# Altium integrated library Analog Devices Data Converters Digital-to-Analog Converters.IntLib: 2231 symbols (part 11 of 181)
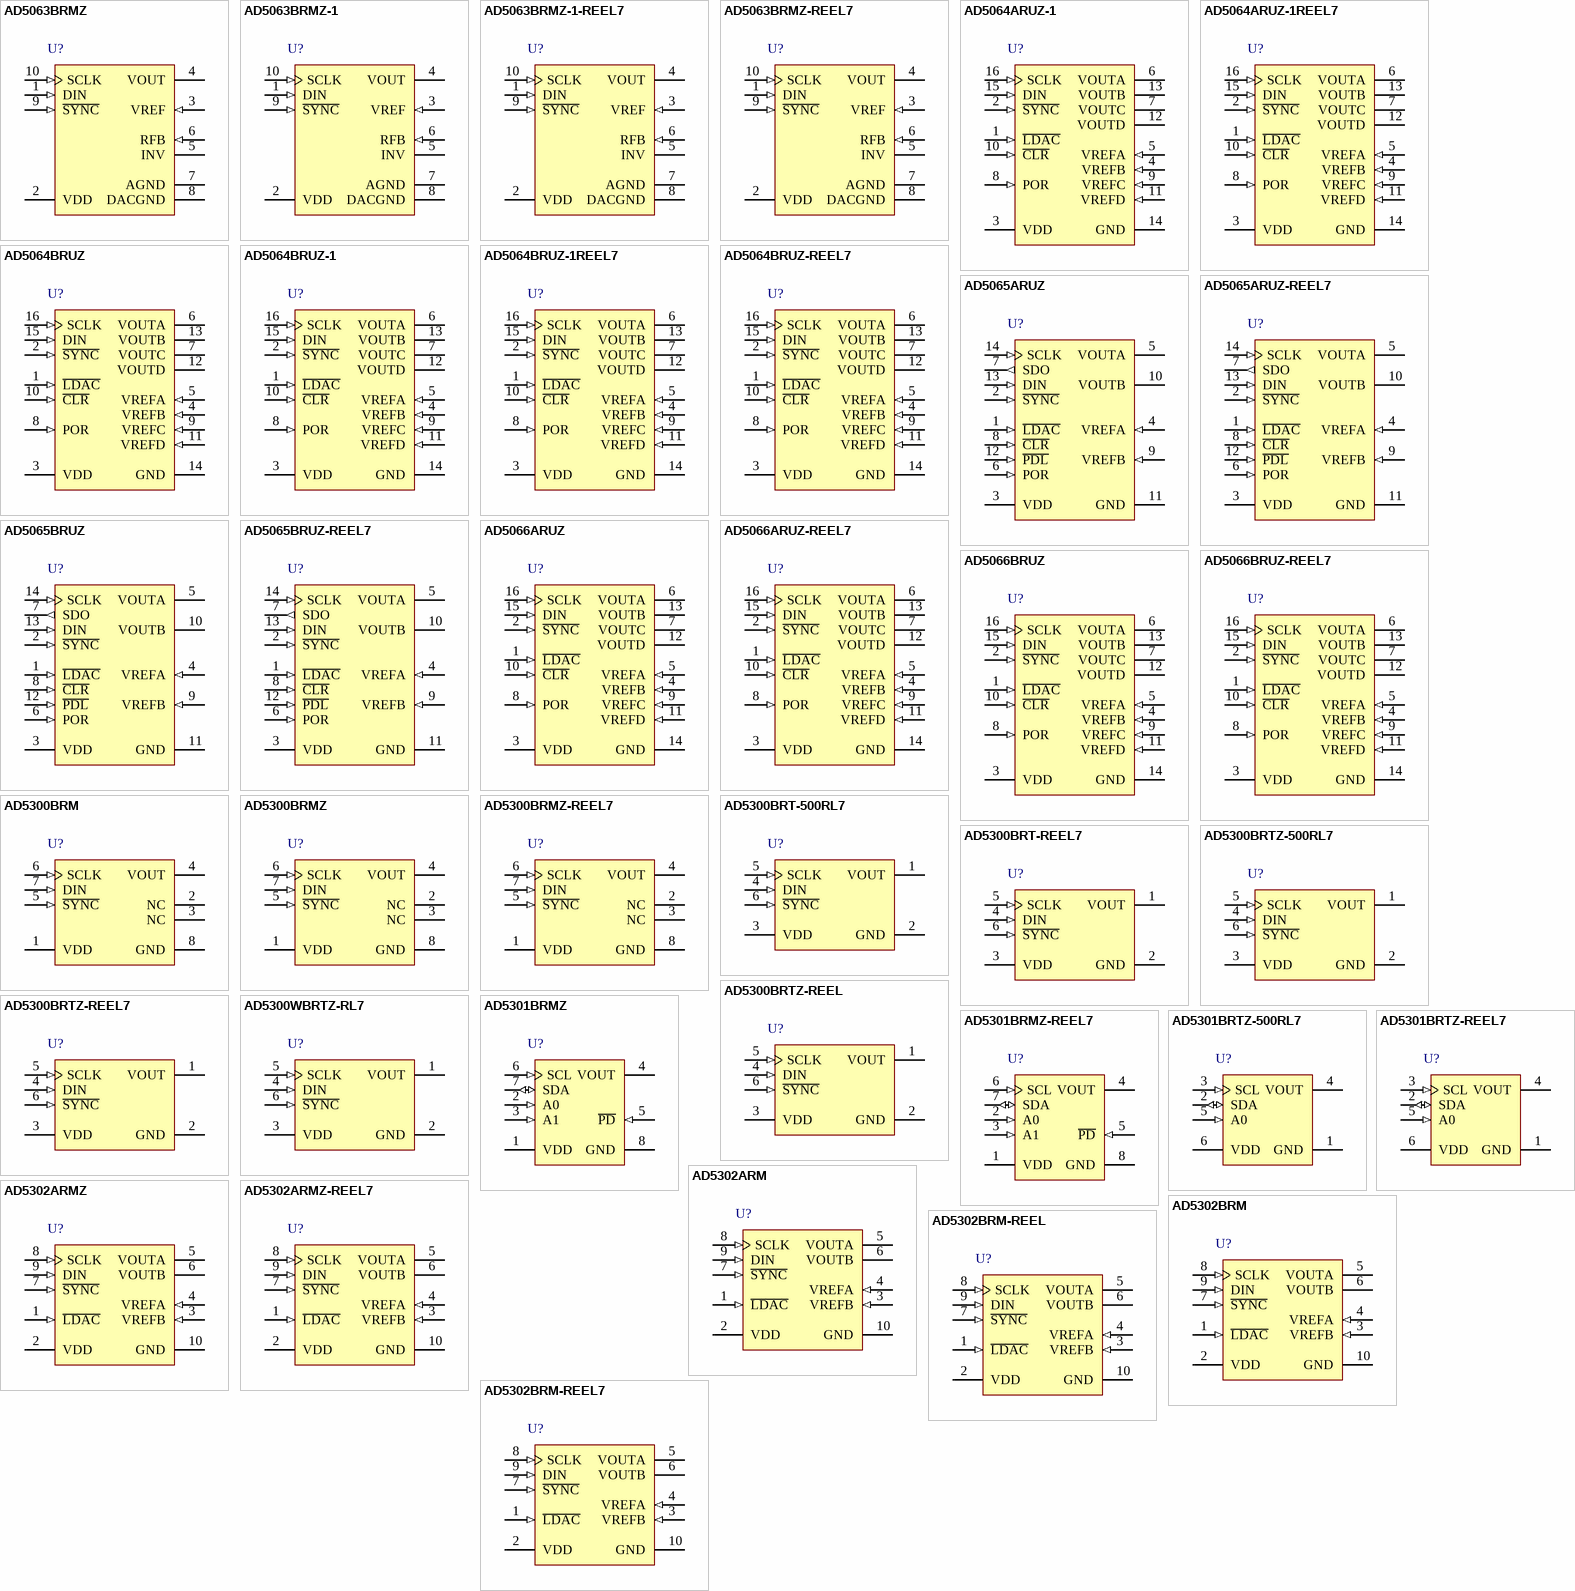
[diagram p124: symbols AD5063BRMZ to AD5302BRM-REEL7]

## AD5065BRUZ
designator U?
Dual 16-Bit Fully Accurate nanoDAC with SPI Interface, -40 to +125 degC, RU-14, Pb-Free, Tube; Generic Part Number: AD5065; Manufacturer: Analog Devices; PartNumber: AD5065BRUZ; # DAC Outputs: 2; Max V+: 5.5V; Op Pwr Diss: 13.5mW; Resolution (Bits): 16; Settling Time: 10.7µs; Single Supply: Yes; DatasheetVersion: Rev.0; PackageVersion: Aug-2002; PackageReference: RU-14; PackageDescription: 14-Lead Thin Shrink Small Outline Package [TSSOP]; Supplier 1: Digi-Key; Supplier Part Number 1: AD5065BRUZ-ND; Supplier 2: Farnell; Supplier Part Number 2: 2067840; Supplier 3: Newark; Supplier Part Number 3: 34P3160; Supplier 4: Mouser; Supplier Part Number 4: 584-AD5065BRUZ; Packing: Tube; RoHS: Y; Mounting Technology: Surface Mount; Code_JEDEC: MO-153-AB-1; ComponentLink1Description: Manufacturer URL; ComponentLink1URL: http://www.analog.com/en/index.html; ComponentLink2Description: Datasheet; ComponentLink2URL: http://www.analog.com/static/imported-files/data_sheets/AD5025_5045_5065.pdf; ComponentLink3Description: Package Specification; ComponentLink3URL: http://www.analog.com/static/imported-files/packages/36057385283879153717235186773RU14.pdf; ComponentLink4Description: Product URL; ComponentLink4URL: http://www.analog.com/en/digital-to-analog-converters/da-converters/ad5065/products/product.html
footprint RU-14_N (TSOP, 14-Leads, Body 5x4.4mm, Pitch 0.65mm, IPC Medium Density)
footprint RU-14_L (TSOP, 14-Leads, Body 5x4.4mm, Pitch 0.65mm, IPC High Density)
footprint RU-14_M (TSOP, 14-Leads, Body 5x4.4mm, Pitch 0.65mm, IPC Low Density)
pins: 1 ~{LDAC} (in) "Pulsing this pin low allows any or all DAC registers to be updated if the input registers have new data. This allows all DAC outputs to simultaneously update. This pin can be tied permanently low in standalone mode. When (See Datasheet)", 2 ~{SYNC} (in) "Active Low Control Input. This is the frame synchronization signal for the input data. When S\Y\N\C\ goes low, it powers on the SCLK and DIN buffers and enables the input register. Data is transferred in on the falling edges (See Datasheet)", 3 VDD (power) "Power Supply Input. These parts can be operated from 4.5 V to 5.5 V, and the supply should be decoupled with a 10 uF capacitor in parallel with a 0.1 uF capacitor to GND.", 4 VREFA (in) "DAC A Reference Input. This is the reference voltage input pin for DAC A.", 5 VOUTA (hiz) "Analog Output Voltage from DAC A. The output amplifier has rail-to-rail operation.", 6 POR (in) "Power-On Reset Pin. Tying this pin to GND powers up the part to 0 V. Tying this pin to VDD powers up the part to midscale.", 7 SDO (out) "Serial Data Output. Can be used for daisy-chaining a number of these devices together or for reading back the data in the shift register for diagnostic purposes. The serial data is transferred on the rising edge of SCLK and (See Datasheet)", 8 ~{CLR} (in) "Asynchronous Clear Input. The C\L\R\ input is falling edge sensitive. When C\L\R\ is low, all L\D\A\C\ pulses are ignored. When C\L\R\ is activated, the input register and the DAC register are updated with the data contained (See Datasheet)", 9 VREFB (in) "DAC B Reference Input. This is the reference voltage input pin for DAC B.", 10 VOUTB (hiz) "Analog Output Voltage from DAC B. The output amplifier has rail-to-rail operation.", 11 GND (power) "Ground Reference Point for All Circuitry on the Part.", 12 ~{PDL} (in) "The P\D\L\ pin is used to ensure hardware shutdown lockout of the device under any circumstance. A Logic 1 at the P\L\O\ pin causes the device to behave as normal. The user may successfully enter software power-down over the (See Datasheet)", 13 DIN (in) "Serial Data Input. This device has a 32-bit shift register. Data is clocked into the register on the falling edge of the serial clock input.", 14 SCLK (in) "Serial Clock Input. Data is clocked into the input register on the falling edge of the serial clock input. Data can be transferred at rates of up to 50 MHz."

## AD5065BRUZ-REEL7
designator U?
Dual 16-Bit Fully Accurate nanoDAC with SPI Interface, -40 to +125 degC, RU-14, Pb-Free, Reel; Generic Part Number: AD5065; Manufacturer: Analog Devices; PartNumber: AD5065BRUZ-REEL7; # DAC Outputs: 2; Max V+: 5.5V; Op Pwr Diss: 13.5mW; Resolution (Bits): 16; Settling Time: 10.7µs; Single Supply: Yes; DatasheetVersion: Rev.0; PackageVersion: Aug-2002; PackageReference: RU-14; PackageDescription: 14-Lead Thin Shrink Small Outline Package [TSSOP]; Supplier 1: Digi-Key; Supplier Part Number 1: AD5065BRUZ-REEL7-ND; Supplier 2: Mouser; Supplier Part Number 2: 584-AD5065BRUZ-R7; Packing: Reel; RoHS: Y; Mounting Technology: Surface Mount; Code_JEDEC: MO-153-AB-1; ComponentLink1Description: Manufacturer URL; ComponentLink1URL: http://www.analog.com/en/index.html; ComponentLink2Description: Datasheet; ComponentLink2URL: http://www.analog.com/static/imported-files/data_sheets/AD5025_5045_5065.pdf; ComponentLink3Description: Package Specification; ComponentLink3URL: http://www.analog.com/static/imported-files/packages/36057385283879153717235186773RU14.pdf; ComponentLink4Description: Product URL; ComponentLink4URL: http://www.analog.com/en/digital-to-analog-converters/da-converters/ad5065/products/product.html
footprint RU-14_N (TSOP, 14-Leads, Body 5x4.4mm, Pitch 0.65mm, IPC Medium Density)
footprint RU-14_L (TSOP, 14-Leads, Body 5x4.4mm, Pitch 0.65mm, IPC High Density)
footprint RU-14_M (TSOP, 14-Leads, Body 5x4.4mm, Pitch 0.65mm, IPC Low Density)
pins: 1 ~{LDAC} (in) "Pulsing this pin low allows any or all DAC registers to be updated if the input registers have new data. This allows all DAC outputs to simultaneously update. This pin can be tied permanently low in standalone mode. When (See Datasheet)", 2 ~{SYNC} (in) "Active Low Control Input. This is the frame synchronization signal for the input data. When S\Y\N\C\ goes low, it powers on the SCLK and DIN buffers and enables the input register. Data is transferred in on the falling edges (See Datasheet)", 3 VDD (power) "Power Supply Input. These parts can be operated from 4.5 V to 5.5 V, and the supply should be decoupled with a 10 uF capacitor in parallel with a 0.1 uF capacitor to GND.", 4 VREFA (in) "DAC A Reference Input. This is the reference voltage input pin for DAC A.", 5 VOUTA (hiz) "Analog Output Voltage from DAC A. The output amplifier has rail-to-rail operation.", 6 POR (in) "Power-On Reset Pin. Tying this pin to GND powers up the part to 0 V. Tying this pin to VDD powers up the part to midscale.", 7 SDO (out) "Serial Data Output. Can be used for daisy-chaining a number of these devices together or for reading back the data in the shift register for diagnostic purposes. The serial data is transferred on the rising edge of SCLK and (See Datasheet)", 8 ~{CLR} (in) "Asynchronous Clear Input. The C\L\R\ input is falling edge sensitive. When C\L\R\ is low, all L\D\A\C\ pulses are ignored. When C\L\R\ is activated, the input register and the DAC register are updated with the data contained (See Datasheet)", 9 VREFB (in) "DAC B Reference Input. This is the reference voltage input pin for DAC B.", 10 VOUTB (hiz) "Analog Output Voltage from DAC B. The output amplifier has rail-to-rail operation.", 11 GND (power) "Ground Reference Point for All Circuitry on the Part.", 12 ~{PDL} (in) "The P\D\L\ pin is used to ensure hardware shutdown lockout of the device under any circumstance. A Logic 1 at the P\L\O\ pin causes the device to behave as normal. The user may successfully enter software power-down over the (See Datasheet)", 13 DIN (in) "Serial Data Input. This device has a 32-bit shift register. Data is clocked into the register on the falling edge of the serial clock input.", 14 SCLK (in) "Serial Clock Input. Data is clocked into the input register on the falling edge of the serial clock input. Data can be transferred at rates of up to 50 MHz."

## AD5066ARUZ
designator U?
Quad 16-Bit Fully Accurate nanoDAC with SPI Interface and Unbuffered Vout, 2.7 to 5.5 V, -40 to +125 degC, RU-16, Pb-Free, Tube; Generic Part Number: AD5066; Manufacturer: Analog Devices; PartNumber: AD5066ARUZ; # DAC Outputs: 4; Max V+: 5.5V; Op Pwr Diss: 12.5mW; Resolution (Bits): 16; Settling Time: 12µs; Single Supply: Yes; DatasheetVersion: Rev.A; PackageVersion: Nov-2002; PackageReference: RU-16; PackageDescription: 16-Lead Thin Shrink Small Outline Package [TSSOP]; Supplier 1: Digi-Key; Supplier Part Number 1: AD5066ARUZ-ND; Supplier 2: Farnell; Supplier Part Number 2: 1827268; Supplier 3: Newark; Supplier Part Number 3: 81R1715; Supplier 4: Newark; Supplier Part Number 4: 26R2458; Supplier 5: Mouser; Supplier Part Number 5: 584-AD5066ARUZ; Packing: Tube; RoHS: Y; Mounting Technology: Surface Mount; Code_JEDEC: MO-153-AB; ComponentLink1Description: Manufacturer URL; ComponentLink1URL: http://www.analog.com/en/index.html; ComponentLink2Description: Datasheet; ComponentLink2URL: http://www.analog.com/static/imported-files/data_sheets/AD5066.pdf; ComponentLink3Description: Package Specification; ComponentLink3URL: http://www.analog.com/static/imported-files/packages/36244347913743854010197452789RU16.pdf; ComponentLink4Description: Product URL; ComponentLink4URL: http://www.analog.com/en/digital-to-analog-converters/da-converters/ad5066/products/product.html
footprint RU-16_N (TSOP, 16-Leads, Body 5x4.4mm, Pitch 0.65mm, IPC Medium Density)
footprint RU-16_L (TSOP, 16-Leads, Body 5x4.4mm, Pitch 0.65mm, IPC High Density)
footprint RU-16_M (TSOP, 16-Leads, Body 5x4.4mm, Pitch 0.65mm, IPC Low Density)
pins: 1 ~{LDAC} (in) "Load DAC. Logic input. This is used to update the DAC register and, consequently, the analog outputs. When tied permanently low, the addressed DAC register is updated on the falling edge of the 32nd clock. If L\D\A\C\ is (See Datasheet)", 2 ~{SYNC} (in) "Active Low Control Input. This is the frame synchronization signal for the input data. When S\Y\N\C\ goes low, it powers on the S\C\L\K\ and DIN buffers and enables the shift register. Data is transferred in on the falling (See Datasheet)", 3 VDD (power) "Power Supply Input. The AD5066 can be operated from 2.7 V to 5.5 V. Decouple the supply with a 10 uF capacitor in parallel with a 0.1 uF capacitor to GND.", 4 VREFB (in) "External Reference Voltage Input for DAC B.", 5 VREFA (in) "External Reference Voltage Input for DAC A.", 6 VOUTA (hiz) "Unbuffered Analog Output Voltage from DAC A.", 7 VOUTC (hiz) "Unbuffered Analog Output Voltage from DAC C.", 8 POR (in) "Power-On Reset Pin. Tying this pin to GND powers the DAC outputs to zero scale on power-up. Tying this pin to VDD powers the DAC outputs to midscale.", 9 VREFC (in) "External Reference Voltage Input for DAC C.", 10 ~{CLR} (in) "Asynchronous Clear Input. The C\L\R\ input is falling edge sensitive. When C\L\R\ is low, all L\D\A\C\ pulses are ignored. When C\L\R\ is activated, the input register and the DAC register are updated with the data contained (See Datasheet)", 11 VREFD (in) "External Reference Voltage Input for DAC D.", 12 VOUTD (hiz) "Unbuffered Analog Output Voltage from DAC D.", 13 VOUTB (hiz) "Unbuffered Analog Output Voltage from DAC B.", 14 GND (power) "Ground Reference Point for All Circuitry on the Part.", 15 DIN (in) "Serial Data Input. This device has a 32-bit shift register. Data is clocked into the register on the falling edge of the serial clock input.", 16 SCLK (in) "Serial Clock Input. Data is clocked into the input shift register on the falling edge of the serial clock input. Data can be transferred at rates of up to 50 MHz."

## AD5066ARUZ-REEL7
designator U?
Quad 16-Bit Fully Accurate nanoDAC with SPI Interface and Unbuffered Vout, 2.7 to 5.5 V, -40 to +125 degC, RU-16, Pb-Free, Reel; Generic Part Number: AD5066; Manufacturer: Analog Devices; PartNumber: AD5066ARUZ-REEL7; # DAC Outputs: 4; Max V+: 5.5V; Op Pwr Diss: 12.5mW; Resolution (Bits): 16; Settling Time: 12µs; Single Supply: Yes; DatasheetVersion: Rev.A; PackageVersion: Nov-2002; PackageReference: RU-16; PackageDescription: 16-Lead Thin Shrink Small Outline Package [TSSOP]; Supplier 1: Digi-Key; Supplier Part Number 1: AD5066ARUZ-REEL7-ND; Supplier 2: Mouser; Supplier Part Number 2: 584-AD5066ARUZ-R7; Packing: Reel; RoHS: Y; Mounting Technology: Surface Mount; Code_JEDEC: MO-153-AB; ComponentLink1Description: Manufacturer URL; ComponentLink1URL: http://www.analog.com/en/index.html; ComponentLink2Description: Datasheet; ComponentLink2URL: http://www.analog.com/static/imported-files/data_sheets/AD5066.pdf; ComponentLink3Description: Package Specification; ComponentLink3URL: http://www.analog.com/static/imported-files/packages/36244347913743854010197452789RU16.pdf; ComponentLink4Description: Product URL; ComponentLink4URL: http://www.analog.com/en/digital-to-analog-converters/da-converters/ad5066/products/product.html
footprint RU-16_N (TSOP, 16-Leads, Body 5x4.4mm, Pitch 0.65mm, IPC Medium Density)
footprint RU-16_L (TSOP, 16-Leads, Body 5x4.4mm, Pitch 0.65mm, IPC High Density)
footprint RU-16_M (TSOP, 16-Leads, Body 5x4.4mm, Pitch 0.65mm, IPC Low Density)
pins: 1 ~{LDAC} (in) "Load DAC. Logic input. This is used to update the DAC register and, consequently, the analog outputs. When tied permanently low, the addressed DAC register is updated on the falling edge of the 32nd clock. If L\D\A\C\ is (See Datasheet)", 2 ~{SYNC} (in) "Active Low Control Input. This is the frame synchronization signal for the input data. When S\Y\N\C\ goes low, it powers on the S\C\L\K\ and DIN buffers and enables the shift register. Data is transferred in on the falling (See Datasheet)", 3 VDD (power) "Power Supply Input. The AD5066 can be operated from 2.7 V to 5.5 V. Decouple the supply with a 10 uF capacitor in parallel with a 0.1 uF capacitor to GND.", 4 VREFB (in) "External Reference Voltage Input for DAC B.", 5 VREFA (in) "External Reference Voltage Input for DAC A.", 6 VOUTA (hiz) "Unbuffered Analog Output Voltage from DAC A.", 7 VOUTC (hiz) "Unbuffered Analog Output Voltage from DAC C.", 8 POR (in) "Power-On Reset Pin. Tying this pin to GND powers the DAC outputs to zero scale on power-up. Tying this pin to VDD powers the DAC outputs to midscale.", 9 VREFC (in) "External Reference Voltage Input for DAC C.", 10 ~{CLR} (in) "Asynchronous Clear Input. The C\L\R\ input is falling edge sensitive. When C\L\R\ is low, all L\D\A\C\ pulses are ignored. When C\L\R\ is activated, the input register and the DAC register are updated with the data contained (See Datasheet)", 11 VREFD (in) "External Reference Voltage Input for DAC D.", 12 VOUTD (hiz) "Unbuffered Analog Output Voltage from DAC D.", 13 VOUTB (hiz) "Unbuffered Analog Output Voltage from DAC B.", 14 GND (power) "Ground Reference Point for All Circuitry on the Part.", 15 DIN (in) "Serial Data Input. This device has a 32-bit shift register. Data is clocked into the register on the falling edge of the serial clock input.", 16 SCLK (in) "Serial Clock Input. Data is clocked into the input shift register on the falling edge of the serial clock input. Data can be transferred at rates of up to 50 MHz."

## AD5066BRUZ
designator U?
Quad 16-Bit Fully Accurate nanoDAC with SPI Interface and Unbuffered Vout, 2.7 to 5.5 V, -40 to +125 degC, RU-16, Pb-Free, Tube; Generic Part Number: AD5066; Manufacturer: Analog Devices; PartNumber: AD5066BRUZ; # DAC Outputs: 4; Max V+: 5.5V; Op Pwr Diss: 12.5mW; Resolution (Bits): 16; Settling Time: 12µs; Single Supply: Yes; DatasheetVersion: Rev.A; PackageVersion: Nov-2002; PackageReference: RU-16; PackageDescription: 16-Lead Thin Shrink Small Outline Package [TSSOP]; Supplier 1: Digi-Key; Supplier Part Number 1: AD5066BRUZ-ND; Supplier 2: Farnell; Supplier Part Number 2: 2067841; Supplier 3: Newark; Supplier Part Number 3: 26R2460; Supplier 4: Mouser; Supplier Part Number 4: 584-AD5066BRUZ; Packing: Tube; RoHS: Y; Mounting Technology: Surface Mount; Code_JEDEC: MO-153-AB; ComponentLink1Description: Manufacturer URL; ComponentLink1URL: http://www.analog.com/en/index.html; ComponentLink2Description: Datasheet; ComponentLink2URL: http://www.analog.com/static/imported-files/data_sheets/AD5066.pdf; ComponentLink3Description: Package Specification; ComponentLink3URL: http://www.analog.com/static/imported-files/packages/36244347913743854010197452789RU16.pdf; ComponentLink4Description: Product URL; ComponentLink4URL: http://www.analog.com/en/digital-to-analog-converters/da-converters/ad5066/products/product.html
footprint RU-16_N (TSOP, 16-Leads, Body 5x4.4mm, Pitch 0.65mm, IPC Medium Density)
footprint RU-16_L (TSOP, 16-Leads, Body 5x4.4mm, Pitch 0.65mm, IPC High Density)
footprint RU-16_M (TSOP, 16-Leads, Body 5x4.4mm, Pitch 0.65mm, IPC Low Density)
pins: 1 ~{LDAC} (in) "Load DAC. Logic input. This is used to update the DAC register and, consequently, the analog outputs. When tied permanently low, the addressed DAC register is updated on the falling edge of the 32nd clock. If L\D\A\C\ is (See Datasheet)", 2 ~{SYNC} (in) "Active Low Control Input. This is the frame synchronization signal for the input data. When S\Y\N\C\ goes low, it powers on the S\C\L\K\ and DIN buffers and enables the shift register. Data is transferred in on the falling (See Datasheet)", 3 VDD (power) "Power Supply Input. The AD5066 can be operated from 2.7 V to 5.5 V. Decouple the supply with a 10 uF capacitor in parallel with a 0.1 uF capacitor to GND.", 4 VREFB (in) "External Reference Voltage Input for DAC B.", 5 VREFA (in) "External Reference Voltage Input for DAC A.", 6 VOUTA (hiz) "Unbuffered Analog Output Voltage from DAC A.", 7 VOUTC (hiz) "Unbuffered Analog Output Voltage from DAC C.", 8 POR (in) "Power-On Reset Pin. Tying this pin to GND powers the DAC outputs to zero scale on power-up. Tying this pin to VDD powers the DAC outputs to midscale.", 9 VREFC (in) "External Reference Voltage Input for DAC C.", 10 ~{CLR} (in) "Asynchronous Clear Input. The C\L\R\ input is falling edge sensitive. When C\L\R\ is low, all L\D\A\C\ pulses are ignored. When C\L\R\ is activated, the input register and the DAC register are updated with the data contained (See Datasheet)", 11 VREFD (in) "External Reference Voltage Input for DAC D.", 12 VOUTD (hiz) "Unbuffered Analog Output Voltage from DAC D.", 13 VOUTB (hiz) "Unbuffered Analog Output Voltage from DAC B.", 14 GND (power) "Ground Reference Point for All Circuitry on the Part.", 15 DIN (in) "Serial Data Input. This device has a 32-bit shift register. Data is clocked into the register on the falling edge of the serial clock input.", 16 SCLK (in) "Serial Clock Input. Data is clocked into the input shift register on the falling edge of the serial clock input. Data can be transferred at rates of up to 50 MHz."

## AD5066BRUZ-REEL7
designator U?
Quad 16-Bit Fully Accurate nanoDAC with SPI Interface and Unbuffered Vout, 2.7 to 5.5 V, -40 to +125 degC, RU-16, Pb-Free, Reel; Generic Part Number: AD5066; Manufacturer: Analog Devices; PartNumber: AD5066BRUZ-REEL7; # DAC Outputs: 4; Max V+: 5.5V; Op Pwr Diss: 12.5mW; Resolution (Bits): 16; Settling Time: 12µs; Single Supply: Yes; DatasheetVersion: Rev.A; PackageVersion: Nov-2002; PackageReference: RU-16; PackageDescription: 16-Lead Thin Shrink Small Outline Package [TSSOP]; Supplier 1: Digi-Key; Supplier Part Number 1: AD5066BRUZ-REEL7-ND; Supplier 2: Mouser; Supplier Part Number 2: 584-AD5066BRUZ-R7; Packing: Reel; RoHS: Y; Mounting Technology: Surface Mount; Code_JEDEC: MO-153-AB; ComponentLink1Description: Manufacturer URL; ComponentLink1URL: http://www.analog.com/en/index.html; ComponentLink2Description: Datasheet; ComponentLink2URL: http://www.analog.com/static/imported-files/data_sheets/AD5066.pdf; ComponentLink3Description: Package Specification; ComponentLink3URL: http://www.analog.com/static/imported-files/packages/36244347913743854010197452789RU16.pdf; ComponentLink4Description: Product URL; ComponentLink4URL: http://www.analog.com/en/digital-to-analog-converters/da-converters/ad5066/products/product.html
footprint RU-16_N (TSOP, 16-Leads, Body 5x4.4mm, Pitch 0.65mm, IPC Medium Density)
footprint RU-16_L (TSOP, 16-Leads, Body 5x4.4mm, Pitch 0.65mm, IPC High Density)
footprint RU-16_M (TSOP, 16-Leads, Body 5x4.4mm, Pitch 0.65mm, IPC Low Density)
pins: 1 ~{LDAC} (in) "Load DAC. Logic input. This is used to update the DAC register and, consequently, the analog outputs. When tied permanently low, the addressed DAC register is updated on the falling edge of the 32nd clock. If L\D\A\C\ is (See Datasheet)", 2 ~{SYNC} (in) "Active Low Control Input. This is the frame synchronization signal for the input data. When S\Y\N\C\ goes low, it powers on the S\C\L\K\ and DIN buffers and enables the shift register. Data is transferred in on the falling (See Datasheet)", 3 VDD (power) "Power Supply Input. The AD5066 can be operated from 2.7 V to 5.5 V. Decouple the supply with a 10 uF capacitor in parallel with a 0.1 uF capacitor to GND.", 4 VREFB (in) "External Reference Voltage Input for DAC B.", 5 VREFA (in) "External Reference Voltage Input for DAC A.", 6 VOUTA (hiz) "Unbuffered Analog Output Voltage from DAC A.", 7 VOUTC (hiz) "Unbuffered Analog Output Voltage from DAC C.", 8 POR (in) "Power-On Reset Pin. Tying this pin to GND powers the DAC outputs to zero scale on power-up. Tying this pin to VDD powers the DAC outputs to midscale.", 9 VREFC (in) "External Reference Voltage Input for DAC C.", 10 ~{CLR} (in) "Asynchronous Clear Input. The C\L\R\ input is falling edge sensitive. When C\L\R\ is low, all L\D\A\C\ pulses are ignored. When C\L\R\ is activated, the input register and the DAC register are updated with the data contained (See Datasheet)", 11 VREFD (in) "External Reference Voltage Input for DAC D.", 12 VOUTD (hiz) "Unbuffered Analog Output Voltage from DAC D.", 13 VOUTB (hiz) "Unbuffered Analog Output Voltage from DAC B.", 14 GND (power) "Ground Reference Point for All Circuitry on the Part.", 15 DIN (in) "Serial Data Input. This device has a 32-bit shift register. Data is clocked into the register on the falling edge of the serial clock input.", 16 SCLK (in) "Serial Clock Input. Data is clocked into the input shift register on the falling edge of the serial clock input. Data can be transferred at rates of up to 50 MHz."

## AD5300BRM
designator U?
Single 8-Bit Rail-to-Rail Output Digital-to-Analog Converter, 2.7 to 5.5 V, 140 uA, -40 to +105 degC, RM-8, Tube; Generic Part Number: AD5300; Manufacturer: Analog Devices; PartNumber: AD5300BRM; # DAC Outputs: 1; Max V+: 5.5V; Op Pwr Diss: 1.4mW; Resolution (Bits): 8; Settling Time: 4µs; Single Supply: Yes; DatasheetVersion: Rev.D; PackageVersion: Aug-2005; PackageReference: RM-8; PackageDescription: 8-Lead Mini Small Outline Package [MSOP]; Supplier 1: Digi-Key; Supplier Part Number 1: AD5300BRM-ND; Supplier 2: Mouser; Supplier Part Number 2: 584-AD5300BRM; Packing: Tube; RoHS: N; Mounting Technology: Surface Mount; Code_JEDEC: MO-187-AA; ComponentLink1Description: Manufacturer URL; ComponentLink1URL: http://www.analog.com/en/index.html; ComponentLink2Description: Datasheet; ComponentLink2URL: http://www.analog.com/static/imported-files/data_sheets/AD5300.pdf; ComponentLink3Description: Package Specification; ComponentLink3URL: http://www.analog.com/static/imported-files/packages/PKG_PDF/MSOP%28RM%29/RM_8.pdf; ComponentLink4Description: Product URL; ComponentLink4URL: http://www.analog.com/en/digital-to-analog-converters/da-converters/ad5300/products/product.html
footprint RM-8_N (TSOP, 8-Leads, Body 3x3mm, Pitch 0.65mm, IPC Medium Density)
footprint RM-8_L (TSOP, 8-Leads, Body 3x3mm, Pitch 0.65mm, IPC High Density)
footprint RM-8_M (TSOP, 8-Leads, Body 3x3mm, Pitch 0.65mm, IPC Low Density)
pins: 1 VDD (power) "Power Supply Input. These parts can be operated from 2.5 V to 5.5 V, and VDD should be decoupled to GND.", 2 NC "No Connect.", 3 NC "No Connect.", 4 VOUT (hiz) "Analog Output Voltage from DAC. The output amplifier has rail-to-rail operation.", 5 ~{SYNC} (in) "Level Triggered Control Input (Active Low). This is the frame synchronization signal for the input data. When S\Y\N\C\ goes low, it enables the input shift register and data is transferred in on the falling edges of the (See Datasheet)", 6 SCLK (in) "Serial Clock Input. Data is clocked into the input shift register on the falling edge of the serial clock input. Data can be transferred at rates up to 30 MHz.", 7 DIN (in) "Serial Data Input. This device has a 16-bit shift register. Data is clocked into the register on the falling edge of the serial clock input.", 8 GND (power) "Ground Reference Point for All Circuitry on the Part"

## AD5300BRMZ
designator U?
Single 8-Bit Rail-to-Rail Output Digital-to-Analog Converter, 2.7 to 5.5 V, 140 uA, -40 to +105 degC, RM-8, Pb-Free, Tube; Generic Part Number: AD5300; Manufacturer: Analog Devices; PartNumber: AD5300BRMZ; # DAC Outputs: 1; Max V+: 5.5V; Op Pwr Diss: 1.4mW; Resolution (Bits): 8; Settling Time: 4µs; Single Supply: Yes; DatasheetVersion: Rev.D; PackageVersion: Aug-2005; PackageReference: RM-8; PackageDescription: 8-Lead Mini Small Outline Package [MSOP]; Supplier 1: Digi-Key; Supplier Part Number 1: AD5300BRMZ-ND; Supplier 2: Farnell; Supplier Part Number 2: 1079290; Supplier 3: Newark; Supplier Part Number 3: 19M0801; Supplier 4: Mouser; Supplier Part Number 4: 584-AD5300BRMZ; Packing: Tube; RoHS: Y; Mounting Technology: Surface Mount; Code_JEDEC: MO-187-AA; ComponentLink1Description: Manufacturer URL; ComponentLink1URL: http://www.analog.com/en/index.html; ComponentLink2Description: Datasheet; ComponentLink2URL: http://www.analog.com/static/imported-files/data_sheets/AD5300.pdf; ComponentLink3Description: Package Specification; ComponentLink3URL: http://www.analog.com/static/imported-files/packages/PKG_PDF/MSOP%28RM%29/RM_8.pdf; ComponentLink4Description: Product URL; ComponentLink4URL: http://www.analog.com/en/digital-to-analog-converters/da-converters/ad5300/products/product.html
footprint RM-8_N (TSOP, 8-Leads, Body 3x3mm, Pitch 0.65mm, IPC Medium Density)
footprint RM-8_L (TSOP, 8-Leads, Body 3x3mm, Pitch 0.65mm, IPC High Density)
footprint RM-8_M (TSOP, 8-Leads, Body 3x3mm, Pitch 0.65mm, IPC Low Density)
pins: 1 VDD (power) "Power Supply Input. These parts can be operated from 2.5 V to 5.5 V, and VDD should be decoupled to GND.", 2 NC "No Connect.", 3 NC "No Connect.", 4 VOUT (hiz) "Analog Output Voltage from DAC. The output amplifier has rail-to-rail operation.", 5 ~{SYNC} (in) "Level Triggered Control Input (Active Low). This is the frame synchronization signal for the input data. When S\Y\N\C\ goes low, it enables the input shift register and data is transferred in on the falling edges of the (See Datasheet)", 6 SCLK (in) "Serial Clock Input. Data is clocked into the input shift register on the falling edge of the serial clock input. Data can be transferred at rates up to 30 MHz.", 7 DIN (in) "Serial Data Input. This device has a 16-bit shift register. Data is clocked into the register on the falling edge of the serial clock input.", 8 GND (power) "Ground Reference Point for All Circuitry on the Part"

## AD5300BRMZ-REEL7
designator U?
Single 8-Bit Rail-to-Rail Output Digital-to-Analog Converter, 2.7 to 5.5 V, 140 uA, -40 to +105 degC, RM-8, Pb-Free, Reel; Generic Part Number: AD5300; Manufacturer: Analog Devices; PartNumber: AD5300BRMZ-REEL7; # DAC Outputs: 1; Max V+: 5.5V; Op Pwr Diss: 1.4mW; Resolution (Bits): 8; Settling Time: 4µs; Single Supply: Yes; DatasheetVersion: Rev.D; PackageVersion: Aug-2005; PackageReference: RM-8; PackageDescription: 8-Lead Mini Small Outline Package [MSOP]; Supplier 1: Digi-Key; Supplier Part Number 1: AD5300BRMZ-REEL7TR-ND; Supplier 2: Digi-Key; Supplier Part Number 2: AD5300BRMZ-REEL7CT-ND; Supplier 3: Digi-Key; Supplier Part Number 3: AD5300BRMZ-REEL7DKR-ND; Supplier 4: Mouser; Supplier Part Number 4: 584-AD5300BRMZ-R7; Packing: Reel; RoHS: Y; Mounting Technology: Surface Mount; Code_JEDEC: MO-187-AA; ComponentLink1Description: Manufacturer URL; ComponentLink1URL: http://www.analog.com/en/index.html; ComponentLink2Description: Datasheet; ComponentLink2URL: http://www.analog.com/static/imported-files/data_sheets/AD5300.pdf; ComponentLink3Description: Package Specification; ComponentLink3URL: http://www.analog.com/static/imported-files/packages/PKG_PDF/MSOP%28RM%29/RM_8.pdf; ComponentLink4Description: Product URL; ComponentLink4URL: http://www.analog.com/en/digital-to-analog-converters/da-converters/ad5300/products/product.html
footprint RM-8_N (TSOP, 8-Leads, Body 3x3mm, Pitch 0.65mm, IPC Medium Density)
footprint RM-8_L (TSOP, 8-Leads, Body 3x3mm, Pitch 0.65mm, IPC High Density)
footprint RM-8_M (TSOP, 8-Leads, Body 3x3mm, Pitch 0.65mm, IPC Low Density)
pins: 1 VDD (power) "Power Supply Input. These parts can be operated from 2.5 V to 5.5 V, and VDD should be decoupled to GND.", 2 NC "No Connect.", 3 NC "No Connect.", 4 VOUT (hiz) "Analog Output Voltage from DAC. The output amplifier has rail-to-rail operation.", 5 ~{SYNC} (in) "Level Triggered Control Input (Active Low). This is the frame synchronization signal for the input data. When S\Y\N\C\ goes low, it enables the input shift register and data is transferred in on the falling edges of the (See Datasheet)", 6 SCLK (in) "Serial Clock Input. Data is clocked into the input shift register on the falling edge of the serial clock input. Data can be transferred at rates up to 30 MHz.", 7 DIN (in) "Serial Data Input. This device has a 16-bit shift register. Data is clocked into the register on the falling edge of the serial clock input.", 8 GND (power) "Ground Reference Point for All Circuitry on the Part"

## AD5300BRT-500RL7
designator U?
Single 8-Bit Rail-to-Rail Output Digital-to-Analog Converter, 2.7 to 5.5 V, 140 uA, -40 to +105 degC, RJ-6, Reel; Generic Part Number: AD5300; Manufacturer: Analog Devices; PartNumber: AD5300BRT-500RL7; # DAC Outputs: 1; Max V+: 5.5V; Op Pwr Diss: 1.4mW; Resolution (Bits): 8; Settling Time: 4µs; Single Supply: Yes; DatasheetVersion: Rev.D; PackageVersion: 121608-A; PackageReference: RJ-6; PackageDescription: 6-Lead Small Outline Transistor Package [SOT-23]; Supplier 1: Digi-Key; Supplier Part Number 1: AD5300BRT-500RL7-ND; Supplier 2: Mouser; Supplier Part Number 2: 584-AD5300BRT-500R7; Packing: Reel; RoHS: N; Mounting Technology: Surface Mount; Code_JEDEC: MO-178-AB; ComponentLink1Description: Manufacturer URL; ComponentLink1URL: http://www.analog.com/en/index.html; ComponentLink2Description: Datasheet; ComponentLink2URL: http://www.analog.com/static/imported-files/data_sheets/AD5300.pdf; ComponentLink3Description: Package Specification; ComponentLink3URL: http://www.analog.com/static/imported-files/packages/PKG_PDF/SOT-23(RJ)/RJ_6.pdf; ComponentLink4Description: Product URL; ComponentLink4URL: http://www.analog.com/en/digital-to-analog-converters/da-converters/ad5300/products/product.html
footprint RJ-6_N (SOT23, 6-Leads, Body 2.9x1.6mm, Pitch 0.95mm, Lead Span 2.8mm, IPC Medium Density)
footprint RJ-6_L (SOT23, 6-Leads, Body 2.9x1.6mm, Pitch 0.95mm, Lead Span 2.8mm, IPC High Density)
footprint RJ-6_M (SOT23, 6-Leads, Body 2.9x1.6mm, Pitch 0.95mm, Lead Span 2.8mm, IPC Low Density)
pins: 1 VOUT (hiz) "Analog Output Voltage from DAC. The output amplifier has rail-to-rail operation.", 2 GND (power) "Ground Reference Point for All Circuitry on the Part.", 3 VDD (power) "Power Supply Input. These parts can be operated from 2.5 V to 5.5 V, and VDD should be decoupled to GND.", 4 DIN (in) "Serial Data Input. This device has a 16-bit shift register. Data is clocked into the register on the falling edge of the serial clock input.", 5 SCLK (in) "Serial Clock Input. Data is clocked into the input shift register on the falling edge of the serial clock input. Data can be transferred at rates up to 30 MHz.", 6 ~{SYNC} (in) "Level Triggered Control Input (Active Low). This is the frame synchronization signal for the input data. When S\Y\N\C\ goes low, it enables the input shift register and data is transferred in on the falling edges of the (See Datasheet)"

## AD5300BRT-REEL7
designator U?
Single 8-Bit Rail-to-Rail Output Digital-to-Analog Converter, 2.7 to 5.5 V, 140 uA, -40 to +105 degC, RJ-6, Reel; Generic Part Number: AD5300; Manufacturer: Analog Devices; PartNumber: AD5300BRT-REEL7; # DAC Outputs: 1; Max V+: 5.5V; Op Pwr Diss: 1.4mW; Resolution (Bits): 8; Settling Time: 4µs; Single Supply: Yes; DatasheetVersion: Rev.D; PackageVersion: 121608-A; PackageReference: RJ-6; PackageDescription: 6-Lead Small Outline Transistor Package [SOT-23]; Supplier 1: Digi-Key; Supplier Part Number 1: AD5300BRT-REEL7TR-ND; Supplier 2: Digi-Key; Supplier Part Number 2: AD5300BRT-REEL7CT-ND; Supplier 3: Digi-Key; Supplier Part Number 3: AD5300BRT-REEL7DKR-ND; Supplier 4: Newark; Supplier Part Number 4: 09B5171; Supplier 5: Mouser; Supplier Part Number 5: 584-AD5300BRT-R7; Packing: Reel; RoHS: N; Mounting Technology: Surface Mount; Code_JEDEC: MO-178-AB; ComponentLink1Description: Manufacturer URL; ComponentLink1URL: http://www.analog.com/en/index.html; ComponentLink2Description: Datasheet; ComponentLink2URL: http://www.analog.com/static/imported-files/data_sheets/AD5300.pdf; ComponentLink3Description: Package Specification; ComponentLink3URL: http://www.analog.com/static/imported-files/packages/PKG_PDF/SOT-23(RJ)/RJ_6.pdf; ComponentLink4Description: Product URL; ComponentLink4URL: http://www.analog.com/en/digital-to-analog-converters/da-converters/ad5300/products/product.html
footprint RJ-6_N (SOT23, 6-Leads, Body 2.9x1.6mm, Pitch 0.95mm, Lead Span 2.8mm, IPC Medium Density)
footprint RJ-6_L (SOT23, 6-Leads, Body 2.9x1.6mm, Pitch 0.95mm, Lead Span 2.8mm, IPC High Density)
footprint RJ-6_M (SOT23, 6-Leads, Body 2.9x1.6mm, Pitch 0.95mm, Lead Span 2.8mm, IPC Low Density)
pins: 1 VOUT (hiz) "Analog Output Voltage from DAC. The output amplifier has rail-to-rail operation.", 2 GND (power) "Ground Reference Point for All Circuitry on the Part.", 3 VDD (power) "Power Supply Input. These parts can be operated from 2.5 V to 5.5 V, and VDD should be decoupled to GND.", 4 DIN (in) "Serial Data Input. This device has a 16-bit shift register. Data is clocked into the register on the falling edge of the serial clock input.", 5 SCLK (in) "Serial Clock Input. Data is clocked into the input shift register on the falling edge of the serial clock input. Data can be transferred at rates up to 30 MHz.", 6 ~{SYNC} (in) "Level Triggered Control Input (Active Low). This is the frame synchronization signal for the input data. When S\Y\N\C\ goes low, it enables the input shift register and data is transferred in on the falling edges of the (See Datasheet)"

## AD5300BRTZ-500RL7
designator U?
Single 8-Bit Rail-to-Rail Output Digital-to-Analog Converter, 2.7 to 5.5 V, 140 uA, -40 to +105 degC, RJ-6, Pb-Free, Reel; Generic Part Number: AD5300; Manufacturer: Analog Devices; PartNumber: AD5300BRTZ-500RL7; # DAC Outputs: 1; Max V+: 5.5V; Op Pwr Diss: 1.4mW; Resolution (Bits): 8; Settling Time: 4µs; Single Supply: Yes; DatasheetVersion: Rev.D; PackageVersion: 121608-A; PackageReference: RJ-6; PackageDescription: 6-Lead Small Outline Transistor Package [SOT-23]; Supplier 1: Digi-Key; Supplier Part Number 1: AD5300BRTZ-500RL7TR-ND; Supplier 2: Digi-Key; Supplier Part Number 2: AD5300BRTZ-500RL7CT-ND; Supplier 3: Digi-Key; Supplier Part Number 3: AD5300BRTZ-500RL7DKR-ND; Supplier 4: Farnell; Supplier Part Number 4: 1651259RL; Supplier 5: Farnell; Supplier Part Number 5: 1651259; Supplier 6: Newark; Supplier Part Number 6: 19M8813; Supplier 7: Newark; Supplier Part Number 7: 59K3857; Supplier 8: Mouser; Supplier Part Number 8: 584-AD5300BRTZ-500R7; Packing: Reel; RoHS: Y; Mounting Technology: Surface Mount; Code_JEDEC: MO-178-AB; ComponentLink1Description: Manufacturer URL; ComponentLink1URL: http://www.analog.com/en/index.html; ComponentLink2Description: Datasheet; ComponentLink2URL: http://www.analog.com/static/imported-files/data_sheets/AD5300.pdf; ComponentLink3Description: Package Specification; ComponentLink3URL: http://www.analog.com/static/imported-files/packages/PKG_PDF/SOT-23(RJ)/RJ_6.pdf; ComponentLink4Description: Product URL; ComponentLink4URL: http://www.analog.com/en/digital-to-analog-converters/da-converters/ad5300/products/product.html
footprint RJ-6_N (SOT23, 6-Leads, Body 2.9x1.6mm, Pitch 0.95mm, Lead Span 2.8mm, IPC Medium Density)
footprint RJ-6_L (SOT23, 6-Leads, Body 2.9x1.6mm, Pitch 0.95mm, Lead Span 2.8mm, IPC High Density)
footprint RJ-6_M (SOT23, 6-Leads, Body 2.9x1.6mm, Pitch 0.95mm, Lead Span 2.8mm, IPC Low Density)
pins: 1 VOUT (hiz) "Analog Output Voltage from DAC. The output amplifier has rail-to-rail operation.", 2 GND (power) "Ground Reference Point for All Circuitry on the Part.", 3 VDD (power) "Power Supply Input. These parts can be operated from 2.5 V to 5.5 V, and VDD should be decoupled to GND.", 4 DIN (in) "Serial Data Input. This device has a 16-bit shift register. Data is clocked into the register on the falling edge of the serial clock input.", 5 SCLK (in) "Serial Clock Input. Data is clocked into the input shift register on the falling edge of the serial clock input. Data can be transferred at rates up to 30 MHz.", 6 ~{SYNC} (in) "Level Triggered Control Input (Active Low). This is the frame synchronization signal for the input data. When S\Y\N\C\ goes low, it enables the input shift register and data is transferred in on the falling edges of the (See Datasheet)"

## AD5300BRTZ-REEL
designator U?
Single 8-Bit Rail-to-Rail Output Digital-to-Analog Converter, 2.7 to 5.5 V, 140 uA, -40 to +105 degC, RJ-6, Pb-Free, Reel; Generic Part Number: AD5300; Manufacturer: Analog Devices; PartNumber: AD5300BRTZ-REEL; # DAC Outputs: 1; Max V+: 5.5V; Op Pwr Diss: 1.4mW; Resolution (Bits): 8; Settling Time: 4µs; Single Supply: Yes; DatasheetVersion: Rev.D; PackageVersion: 121608-A; PackageReference: RJ-6; PackageDescription: 6-Lead Small Outline Transistor Package [SOT-23]; Supplier 1: Digi-Key; Supplier Part Number 1: AD5300BRTZ-REEL-ND; Supplier 2: Newark; Supplier Part Number 2: 59K3855; Supplier 3: Mouser; Supplier Part Number 3: 584-AD5300BRTZ-R; Packing: Reel; RoHS: Y; Mounting Technology: Surface Mount; Code_JEDEC: MO-178-AB; ComponentLink1Description: Manufacturer URL; ComponentLink1URL: http://www.analog.com/en/index.html; ComponentLink2Description: Datasheet; ComponentLink2URL: http://www.analog.com/static/imported-files/data_sheets/AD5300.pdf; ComponentLink3Description: Package Specification; ComponentLink3URL: http://www.analog.com/static/imported-files/packages/PKG_PDF/SOT-23(RJ)/RJ_6.pdf; ComponentLink4Description: Product URL; ComponentLink4URL: http://www.analog.com/en/digital-to-analog-converters/da-converters/ad5300/products/product.html
footprint RJ-6_N (SOT23, 6-Leads, Body 2.9x1.6mm, Pitch 0.95mm, Lead Span 2.8mm, IPC Medium Density)
footprint RJ-6_L (SOT23, 6-Leads, Body 2.9x1.6mm, Pitch 0.95mm, Lead Span 2.8mm, IPC High Density)
footprint RJ-6_M (SOT23, 6-Leads, Body 2.9x1.6mm, Pitch 0.95mm, Lead Span 2.8mm, IPC Low Density)
pins: 1 VOUT (hiz) "Analog Output Voltage from DAC. The output amplifier has rail-to-rail operation.", 2 GND (power) "Ground Reference Point for All Circuitry on the Part.", 3 VDD (power) "Power Supply Input. These parts can be operated from 2.5 V to 5.5 V, and VDD should be decoupled to GND.", 4 DIN (in) "Serial Data Input. This device has a 16-bit shift register. Data is clocked into the register on the falling edge of the serial clock input.", 5 SCLK (in) "Serial Clock Input. Data is clocked into the input shift register on the falling edge of the serial clock input. Data can be transferred at rates up to 30 MHz.", 6 ~{SYNC} (in) "Level Triggered Control Input (Active Low). This is the frame synchronization signal for the input data. When S\Y\N\C\ goes low, it enables the input shift register and data is transferred in on the falling edges of the (See Datasheet)"

## AD5300BRTZ-REEL7
designator U?
Single 8-Bit Rail-to-Rail Output Digital-to-Analog Converter, 2.7 to 5.5 V, 140 uA, -40 to +105 degC, RJ-6, Pb-Free, Reel; Generic Part Number: AD5300; Manufacturer: Analog Devices; PartNumber: AD5300BRTZ-REEL7; # DAC Outputs: 1; Max V+: 5.5V; Op Pwr Diss: 1.4mW; Resolution (Bits): 8; Settling Time: 4µs; Single Supply: Yes; DatasheetVersion: Rev.D; PackageVersion: 121608-A; PackageReference: RJ-6; PackageDescription: 6-Lead Small Outline Transistor Package [SOT-23]; Supplier 1: Digi-Key; Supplier Part Number 1: AD5300BRTZREEL7TR-ND; Supplier 2: Digi-Key; Supplier Part Number 2: AD5300BRTZREEL7CT-ND; Supplier 3: Digi-Key; Supplier Part Number 3: AD5300BRTZREEL7DKR-ND; Supplier 4: Newark; Supplier Part Number 4: 67W2738; Supplier 5: Newark; Supplier Part Number 5: 59K3856; Supplier 6: Mouser; Supplier Part Number 6: 584-AD5300BRTZ-R7; Packing: Reel; RoHS: Y; Mounting Technology: Surface Mount; Code_JEDEC: MO-178-AB; ComponentLink1Description: Manufacturer URL; ComponentLink1URL: http://www.analog.com/en/index.html; ComponentLink2Description: Datasheet; ComponentLink2URL: http://www.analog.com/static/imported-files/data_sheets/AD5300.pdf; ComponentLink3Description: Package Specification; ComponentLink3URL: http://www.analog.com/static/imported-files/packages/PKG_PDF/SOT-23(RJ)/RJ_6.pdf; ComponentLink4Description: Product URL; ComponentLink4URL: http://www.analog.com/en/digital-to-analog-converters/da-converters/ad5300/products/product.html
footprint RJ-6_N (SOT23, 6-Leads, Body 2.9x1.6mm, Pitch 0.95mm, Lead Span 2.8mm, IPC Medium Density)
footprint RJ-6_L (SOT23, 6-Leads, Body 2.9x1.6mm, Pitch 0.95mm, Lead Span 2.8mm, IPC High Density)
footprint RJ-6_M (SOT23, 6-Leads, Body 2.9x1.6mm, Pitch 0.95mm, Lead Span 2.8mm, IPC Low Density)
pins: 1 VOUT (hiz) "Analog Output Voltage from DAC. The output amplifier has rail-to-rail operation.", 2 GND (power) "Ground Reference Point for All Circuitry on the Part.", 3 VDD (power) "Power Supply Input. These parts can be operated from 2.5 V to 5.5 V, and VDD should be decoupled to GND.", 4 DIN (in) "Serial Data Input. This device has a 16-bit shift register. Data is clocked into the register on the falling edge of the serial clock input.", 5 SCLK (in) "Serial Clock Input. Data is clocked into the input shift register on the falling edge of the serial clock input. Data can be transferred at rates up to 30 MHz.", 6 ~{SYNC} (in) "Level Triggered Control Input (Active Low). This is the frame synchronization signal for the input data. When S\Y\N\C\ goes low, it enables the input shift register and data is transferred in on the falling edges of the (See Datasheet)"

## AD5300WBRTZ-RL7
designator U?
Single 8-Bit Rail-to-Rail Output Digital-to-Analog Converter, 2.7 to 5.5 V, 140 uA, -40 to +105 degC, RJ-6, Pb-Free, Reel; Generic Part Number: AD5300; Manufacturer: Analog Devices; PartNumber: AD5300WBRTZ-RL7; # DAC Outputs: 1; Max V+: 5.5V; Op Pwr Diss: 1.4mW; Resolution (Bits): 8; Settling Time: 4µs; Single Supply: Yes; DatasheetVersion: Rev.D; PackageVersion: 121608-A; PackageReference: RJ-6; PackageDescription: 6-Lead Small Outline Transistor Package [SOT-23]; Supplier 1: Digi-Key; Supplier Part Number 1: AD5300WBRTZ-RL7TR-ND; Supplier 2: Digi-Key; Supplier Part Number 2: AD5300WBRTZ-RL7CT-ND; Supplier 3: Digi-Key; Supplier Part Number 3: AD5300WBRTZ-RL7DKR-ND; Supplier 4: Mouser; Supplier Part Number 4: 584-AD5300WBRTZ-R7; Packing: Reel; RoHS: Y; Mounting Technology: Surface Mount; Code_JEDEC: MO-178-AB; ComponentLink1Description: Manufacturer URL; ComponentLink1URL: http://www.analog.com/en/index.html; ComponentLink2Description: Datasheet; ComponentLink2URL: http://www.analog.com/static/imported-files/data_sheets/AD5300.pdf; ComponentLink3Description: Package Specification; ComponentLink3URL: http://www.analog.com/static/imported-files/packages/PKG_PDF/SOT-23(RJ)/RJ_6.pdf; ComponentLink4Description: Product URL; ComponentLink4URL: http://www.analog.com/en/digital-to-analog-converters/da-converters/ad5300/products/product.html
footprint RJ-6_N (SOT23, 6-Leads, Body 2.9x1.6mm, Pitch 0.95mm, Lead Span 2.8mm, IPC Medium Density)
footprint RJ-6_L (SOT23, 6-Leads, Body 2.9x1.6mm, Pitch 0.95mm, Lead Span 2.8mm, IPC High Density)
footprint RJ-6_M (SOT23, 6-Leads, Body 2.9x1.6mm, Pitch 0.95mm, Lead Span 2.8mm, IPC Low Density)
pins: 1 VOUT (hiz) "Analog Output Voltage from DAC. The output amplifier has rail-to-rail operation.", 2 GND (power) "Ground Reference Point for All Circuitry on the Part.", 3 VDD (power) "Power Supply Input. These parts can be operated from 2.5 V to 5.5 V, and VDD should be decoupled to GND.", 4 DIN (in) "Serial Data Input. This device has a 16-bit shift register. Data is clocked into the register on the falling edge of the serial clock input.", 5 SCLK (in) "Serial Clock Input. Data is clocked into the input shift register on the falling edge of the serial clock input. Data can be transferred at rates up to 30 MHz.", 6 ~{SYNC} (in) "Level Triggered Control Input (Active Low). This is the frame synchronization signal for the input data. When S\Y\N\C\ goes low, it enables the input shift register and data is transferred in on the falling edges of the (See Datasheet)"

## AD5301BRMZ
designator U?
Single 8-Bit Digital-to-Analog Converter with 2-Wire Interface, 2.5 to 5.5 V, 120 uA, -40 to +105 degC, RM-8, Pb-Free, Tube; Generic Part Number: AD5301; Manufacturer: Analog Devices; PartNumber: AD5301BRMZ; # DAC Outputs: 1; Max V+: 5.5V; Op Pwr Diss: 750µW; Resolution (Bits): 8; Settling Time: 6µs; Single Supply: Yes; DatasheetVersion: Rev.B; PackageVersion: Aug-2005; PackageReference: RM-8; PackageDescription: 8-Lead Mini Small Outline Package [MSOP]; Supplier 1: Digi-Key; Supplier Part Number 1: AD5301BRMZ-ND; Supplier 2: Farnell; Supplier Part Number 2: 9603956; Supplier 3: Newark; Supplier Part Number 3: 19M0802; Supplier 4: Mouser; Supplier Part Number 4: 584-AD5301BRMZ; Packing: Tube; RoHS: Y; Mounting Technology: Surface Mount; Code_JEDEC: MO-187-AA; ComponentLink1Description: Manufacturer URL; ComponentLink1URL: http://www.analog.com/en/index.html; ComponentLink2Description: Datasheet; ComponentLink2URL: http://www.analog.com/static/imported-files/data_sheets/AD5301_5311_5321.pdf; ComponentLink3Description: Package Specification; ComponentLink3URL: http://www.analog.com/static/imported-files/packages/PKG_PDF/MSOP%28RM%29/RM_8.pdf; ComponentLink4Description: Product URL; ComponentLink4URL: http://www.analog.com/en/digital-to-analog-converters/da-converters/ad5301/products/product.html
footprint RM-8_N (TSOP, 8-Leads, Body 3x3mm, Pitch 0.65mm, IPC Medium Density)
footprint RM-8_L (TSOP, 8-Leads, Body 3x3mm, Pitch 0.65mm, IPC High Density)
footprint RM-8_M (TSOP, 8-Leads, Body 3x3mm, Pitch 0.65mm, IPC Low Density)
pins: 1 VDD (power) "Power Supply Input. These parts can be operated from 2.5 V to 5.5 V and the supply should be decoupled with a 10 uF in parallel with a 0.1 uF capacitor to GND.", 2 A0 (in) "Address Input. Sets the least significant bit of the 7-bit slave address.", 3 A1 (in) "Address Input. Sets the second least significant bit of the 7-bit slave address.", 4 VOUT (hiz) "Buffered Analog Output Voltage from the DAC. The output amplifier has rail-to-rail operation.", 5 ~{PD} (in) "Active Low Control Input. Acts as a hardware power-down option. This pin overrides any software power-down option. The DAC output goes three-state and the current consumption of the part drops to 50 nA @ 3 V (200 nA @ 5 V).", 6 SCL (in) "Serial Clock Line. This is used in conjunction with the SDA line to clock data into the 16-bit input shift register. Clock rates of up to 400 kbps can be accommodated in the I2C-compatible interface. SCL may be CMOS/TTL (See Datasheet)", 7 SDA (io) "Serial Data Line. This is used in conjunction with the SCL line to clock data into the 16-bit input shift register during the write cycle and to read back one or two bytes of data (one byte for the AD5301) during the read (See Datasheet)", 8 GND (power) "Ground Reference Point for All Circuitry on the Part."